# Altium footprint library RCL.PcbLib: 86 footprints (part 2 of 6)
Each footprint in its own frame and in the unit in brackets; x right, y up, seen from the top. Pads: shape width x height; smd on the part's side, far side on the other; paste and mask are expansions set on the pad; w line width, h text height; cw(c..) or ccw(c..) is an arc to the next point about the centre after c.
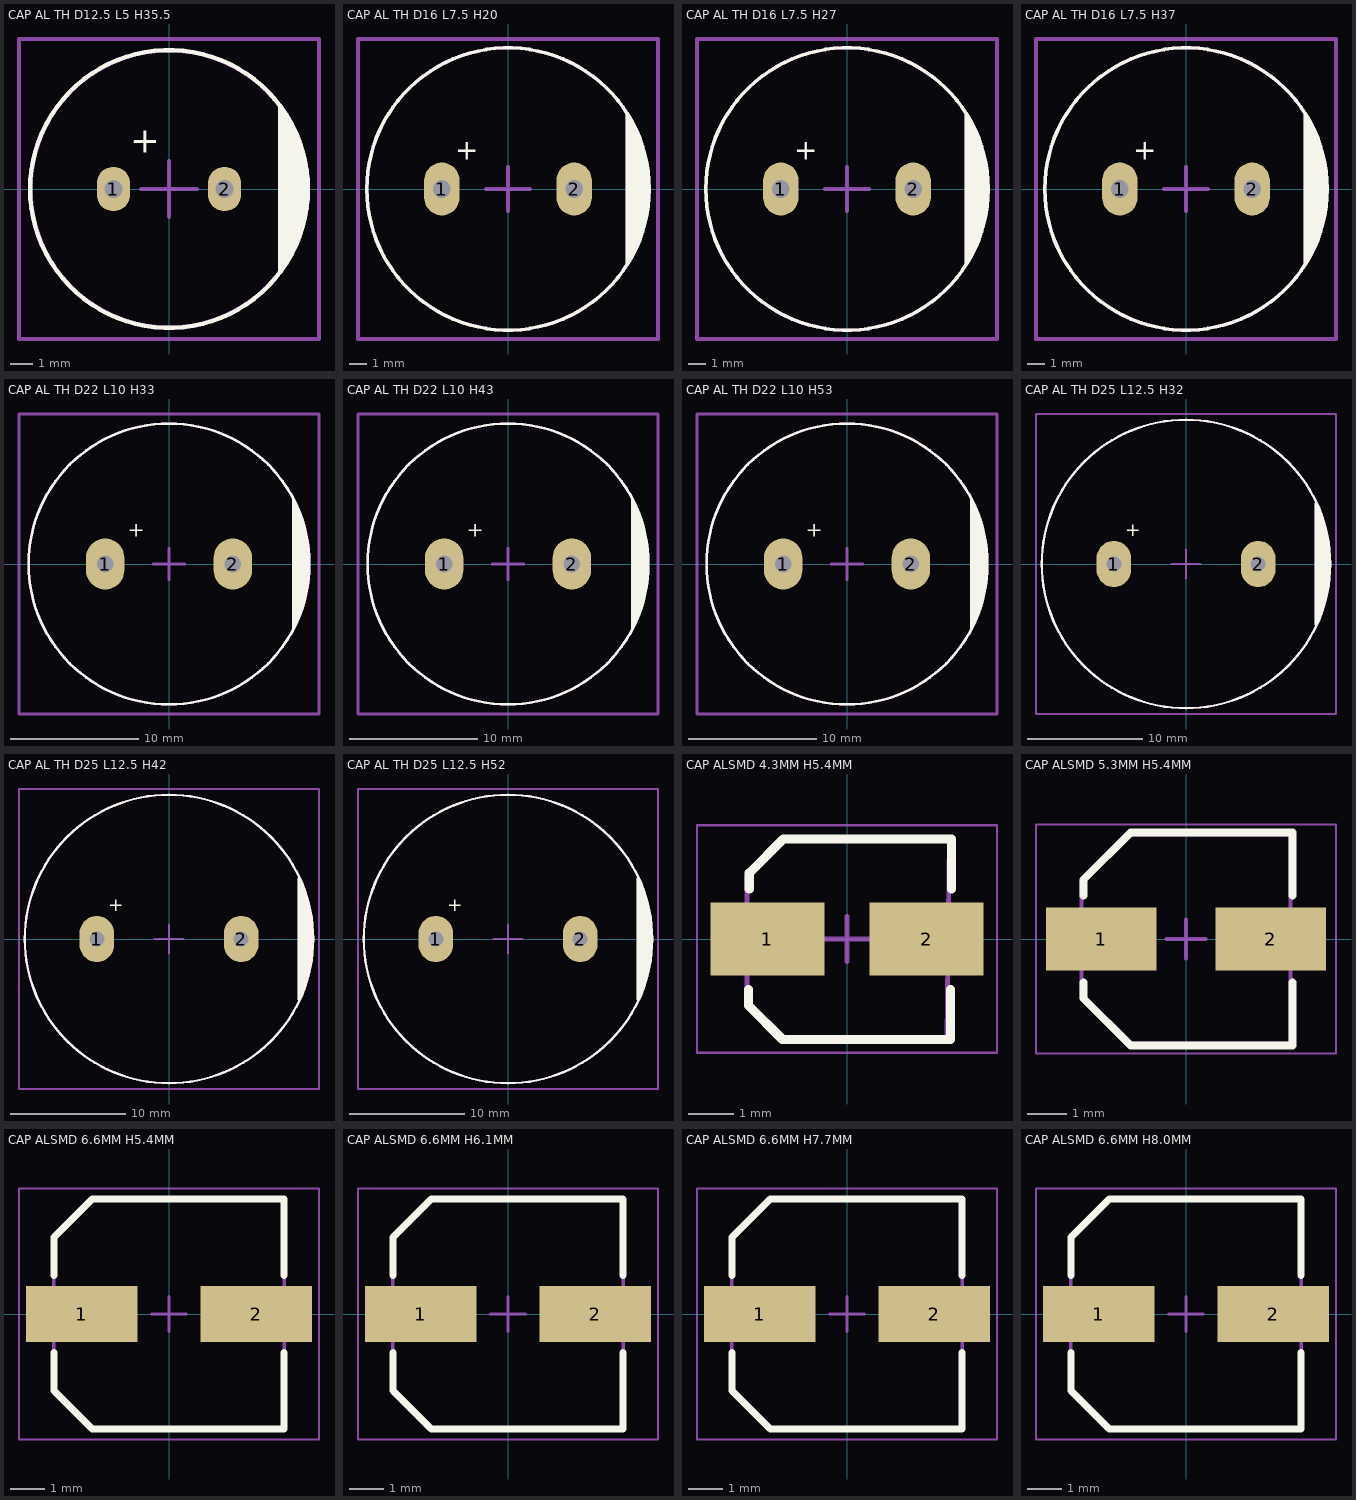
[diagram p1: the footprints below, top view; thin cyan lines are the x and y axes]

## CAP AL TH D12.5 L5 H35.5 [mm] "12.5MM Diameter, 5MM Lead Spacing Aluminium Capacitor"
height 35.5
pads (2):
  oval 1.5x2 hole 0.8: 1(-2.5,0) 2(2.5,0)
Top Overlay:
  circle w0.2: c0,0 r6.25
  region: 5,-3.75 5,3.75 5.75,2.5 6.25,1 6.25,0 6,-1.5 5.75,-2.5
  lines w0.2: 5,-3.75 5,3.75
  text "+" at -1.75,1.25 h2
Top Assembly (Mech3):
  circle w0.2: c0,0 r6.241
  lines w0.2: 5,-3.75 5,3.75
  text "+" at -3.1,-0.8 h3.5
Top Courtyard:
  lines w0.2: -1.25,0 1.25,0 ; 0,-1.25 0,1.25 ; -6.75,-6.75 0,-6.75 6.75,-6.75 6.75,0 6.75,6.75 0,6.75 -6.75,6.75 -6.75,0 -6.75,-6.75
3D body "CAP ALTH D-12.5MM L-5.0MM H-35.5MM.STEP": height 35.7, standoff -3, extent -6.25,-6.25 6.25,6.25

## CAP AL TH D16 L7.5 H20 [mm] "16MM Diameter, 7.5MM Lead Spacing Aluminium Capacitor"
height 20
pads (2):
  oval 2x3 hole 1: 1(-3.75,0) 2(3.75,0)
Top Overlay:
  circle w0.2: c0,0 r8
  region: 6.75,-4.25 6.75,4.25 7.5,2.75 8,1 8,0 7.75,-1.75 7.5,-2.75
  lines w0.2: 6.75,-4.25 6.75,4.25
  text "+" at -3,1.25 h2
Top Assembly (Mech3):
  circle w0.2: c0,0 r8
  lines w0.2: 6.75,-4.25 6.75,4.25
  text "+" at -4.3,-0.8 h3.5
Top Courtyard:
  lines w0.2: -1.25,0 1.25,0 ; 0,-1.25 0,1.25 ; -8.5,-8.5 8.5,-8.5 8.5,8.5 -8.5,8.5 -8.5,-8.5
3D body "CAP ALTH D-16MM L-7.5MM H-20MM .STEP": height 20.2, standoff -3, extent -8,-7.998 8,7.998

## CAP AL TH D16 L7.5 H27 [mm] "16MM Diameter, 7.5MM Lead Spacing Aluminium Capacitor"
height 27
pads (2):
  oval 2x3 hole 1: 1(-3.75,0) 2(3.75,0)
Top Overlay:
  circle w0.2: c0,0 r8
  region: 6.75,-4.25 6.75,4.25 7.5,2.75 8,1 8,0 7.75,-1.75 7.5,-2.75
  lines w0.2: 6.75,-4.25 6.75,4.25
  text "+" at -3,1.25 h2
Top Assembly (Mech3):
  circle w0.2: c0,0 r8
  lines w0.2: 6.75,-4.25 6.75,4.25
  text "+" at -4.3,-0.7 h3.5
Top Courtyard:
  lines w0.2: -1.25,0 1.25,0 ; 0,-1.25 0,1.25 ; -8.5,-8.5 8.5,-8.5 8.5,8.5 -8.5,8.5 -8.5,-8.5
3D body "CAP ALTH D-16MM L-7.5MM H-27MM .STEP": height 27.2, standoff -3, extent -8,-7.997 8,7.998

## CAP AL TH D16 L7.5 H37 [mm] "16MM Diameter, 7.5MM Lead Spacing Aluminium Capacitor"
height 37
pads (2):
  oval 2x3 hole 1: 1(-3.75,0) 2(3.75,0)
Top Overlay:
  circle w0.2: c0,0 r8
  region: 6.75,-4.25 6.75,4.25 7.5,2.75 8,1 8,0 7.75,-1.75 7.5,-2.75
  lines w0.2: 6.75,-4.25 6.75,4.25
  text "+" at -3,1.25 h2
Top Assembly (Mech3):
  circle w0.2: c0,0 r8
  lines w0.2: 6.75,-4.25 6.75,4.25
  text "+" at -4.3,-0.8 h3.5
Top Courtyard:
  lines w0.2: -1.25,0 1.25,0 ; 0,-1.25 0,1.25 ; -8.5,-8.5 8.5,-8.5 8.5,8.5 -8.5,8.5 -8.5,-8.5
3D body "CAP ALTH D-16MM L-7.5MM H-37MM.STEP": height 37.2, standoff -3, extent -8,-8 8,8

## CAP AL TH D22 L10 H33 [mm] "16MM Diameter, 7.5MM Lead Spacing Aluminium Capacitor"
height 33
pads (2):
  oval 3x4 hole 1.3: 1(-5,0) 2(5,0)
Top Overlay:
  circle w0.2: c0,0 r11
  region: 9.75,-5 9.75,5 10.75,2.5 11,1 11,0 11,-1 10.5,-3.25
  lines w0.2: 9.75,-5 9.75,5
  text "+" at -3.25,1.75 h2
Top Assembly (Mech3):
  circle w0.2: c0,0 r11
  lines w0.2: 9.75,-5 9.75,5
  text "+" at -5.6,-0.9 h3.5
Top Courtyard:
  lines w0.2: -1.25,0 1.25,0 ; 0,-1.25 0,1.25 ; -11.75,-11.75 11.75,-11.75 11.75,11.75 -11.75,11.75 -11.75,-11.75
3D body "CAP ALTH D-22MM L-10MM H-33MM.STEP": height 33.2, standoff -3, extent -11,-10.995 11,10.995

## CAP AL TH D22 L10 H43 [mm] "16MM Diameter, 7.5MM Lead Spacing Aluminium Capacitor"
height 43
pads (2):
  oval 3x4 hole 1.3: 1(-5,0) 2(5,0)
Top Overlay:
  circle w0.2: c0,0 r11
  region: 9.75,-5 9.75,5 10.75,2.5 11,1 11,0 11,-1 10.5,-3.25
  lines w0.2: 9.75,-5 9.75,5
  text "+" at -3.25,1.75 h2
Top Assembly (Mech3):
  circle w0.2: c0,0 r11
  lines w0.2: 9.75,-5 9.75,5
  text "+" at -5.5,-0.7 h3.5
Top Courtyard:
  lines w0.2: -1.25,0 1.25,0 ; 0,-1.25 0,1.25 ; -11.75,-11.75 11.75,-11.75 11.75,11.75 -11.75,11.75 -11.75,-11.75
3D body "CAP ALTH D-22MM L-10MM H-43MM.STEP": height 43.2, standoff -3, extent -11,-10.999 11,10.999

## CAP AL TH D22 L10 H53 [mm] "16MM Diameter, 7.5MM Lead Spacing Aluminium Capacitor"
height 53
pads (2):
  oval 3x4 hole 1.3: 1(-5,0) 2(5,0)
Top Overlay:
  circle w0.2: c0,0 r11
  region: 9.75,-5 9.75,5 10.75,2.5 11,1 11,0 11,-1 10.5,-3.25
  lines w0.2: 9.75,-5 9.75,5
  text "+" at -3.25,1.75 h2
Top Assembly (Mech3):
  circle w0.2: c0,0 r11
  lines w0.2: 9.75,-5 9.75,5
  text "+" at -5.5,-0.8 h3.5
Top Courtyard:
  lines w0.2: -1.25,0 1.25,0 ; 0,-1.25 0,1.25 ; -11.75,-11.75 -11.75,11.75 11.75,11.75 11.75,-11.75 -11.75,-11.75
3D body "CAP ALTH D-22MM L-10MM H-53MM.STEP": height 53.2, standoff -3, extent -11,-11 11,11

## CAP AL TH D25 L12.5 H32 [mm] "16MM Diameter, 7.5MM Lead Spacing Aluminium Capacitor"
height 32
pads (2):
  oval 3x4 hole 1.3: 1(-6.25,0) 2(6.25,0)
Top Overlay:
  circle w0.2: c0,0 r12.5
  region: 11.25,-5.25 11.25,5.375 12,3.5 12.25,2.5 12.5,1 12.5,0 12.5,-1 12,-3.5
  lines w0.2: 11.25,-5.25 11.25,5.25
  text "+" at -5.25,2 h2
Top Assembly (Mech3):
  circle w0.2: c0,0 r12.5
  lines w0.2: 11.25,-5.25 11.25,5.25
  text "+" at -6.8,-0.7 h3.5
Top Courtyard:
  lines w0.2: -1.25,0 1.25,0 ; 0,-1.25 0,1.25 ; -13,-13 13,-13 13,13 -13,13 -13,-13
3D body "CAP ALTH D-25MM L-12.5MM H-32MM.STEP": height 32.2, standoff -3, extent -12.5,-12.498 12.5,12.499

## CAP AL TH D25 L12.5 H42 [mm] "16MM Diameter, 7.5MM Lead Spacing Aluminium Capacitor"
height 42
pads (2):
  oval 3x4 hole 1.3: 1(-6.25,0) 2(6.25,0)
Top Overlay:
  circle w0.2: c0,0 r12.5
  region: 11.25,-5.25 11.25,5.375 12,3.5 12.25,2.5 12.5,1 12.5,0 12.5,-1 12,-3.5
  lines w0.2: 11.25,-5.25 11.25,5.25
  text "+" at -5.25,2 h2
Top Assembly (Mech3):
  circle w0.2: c0,0 r12.5
  lines w0.2: 11.25,-5.25 11.25,5.25
  text "+" at -6.8,-0.7 h3.5
Top Courtyard:
  lines w0.2: -1.25,0 1.25,0 ; 0,-1.25 0,1.25 ; -13,-13 13,-13 13,13 -13,13 -13,-13
3D body "CAP ALTH D-25MM L-12.5MM H-42MM.STEP": height 42.2, standoff -3, extent -12.5,-12.496 12.5,12.496

## CAP AL TH D25 L12.5 H52 [mm] "16MM Diameter, 7.5MM Lead Spacing Aluminium Capacitor"
height 52
pads (2):
  oval 3x4 hole 1.3: 1(-6.25,0) 2(6.25,0)
Top Overlay:
  circle w0.2: c0,0 r12.5
  region: 11.25,-5.25 11.25,5.375 12,3.5 12.25,2.5 12.5,1 12.5,0 12.5,-1 12,-3.5
  lines w0.2: 11.25,-5.25 11.25,5.25
  text "+" at -5.25,2 h2
Top Assembly (Mech3):
  circle w0.2: c0,0 r12.5
  lines w0.2: 11.25,-5.25 11.25,5.25
  text "+" at -6.8,-0.9 h3.5
Top Courtyard:
  lines w0.2: -1.25,0 1.25,0 ; 0,-1.25 0,1.25 ; -13,-13 13,-13 13,13 -13,13 -13,-13
3D body "CAP ALTH D-25MM L-12.5MM H-52MM.STEP": height 52.2, standoff -3, extent -12.5,-12.499 12.5,12.499

## CAP ALSMD 4.3MM H5.4MM [mm] "Aluminum Electrolytic Capacitor, Body 4.30x4.30x5.40mm, IPC Low Density"
height 5.4
pads (2):
  rect 2.5x1.6 smd: 1(-1.75,0) 2(1.75,0)
Top Overlay:
  lines w0.2: -2.17,-1.112 -2.17,-1.462 -1.42,-2.212 2.28,-2.212 2.28,-1.112 ; -2.15,1.1 -2.15,1.45 -1.4,2.2 2.3,2.2 2.3,1.1
Top Assembly (Mech3):
  lines w0.1: -2.2,-1.4 -2.2,1.4 -1.4,2.2 2.25,2.2 2.2,-2.2 -1.4,-2.2 -2.2,-1.4
  text "+" at -1.9,-0.8 h3.5
Top Courtyard:
  lines w0.05: -3.3,-2.5 -3.3,2.5 3.3,2.5 3.3,-2.5 -3.3,-2.5
  lines w0.1: -0.5,0 0.5,0 ; 0,-0.5 0,0.5
3D body "CAP ALSMD - 4.3 x 4.3 x 5.4.step": height 5.4, standoff 0, extent -2.3,-2.2 2.3,2.2

## CAP ALSMD 5.3MM H5.4MM [mm] "Aluminum Electrolytic Capacitor, Body 5.30x5.30x5.40mm, IPC Low Density"
height 5.4
pads (2):
  rect 2.8x1.6 smd: 1(-2.15,0) 2(2.15,0)
Top Overlay:
  lines w0.2: -2.6,-1.1 -2.6,-1.5 -1.4,-2.7 2.7,-2.7 2.7,-1.1 ; -2.6,1.1 -2.6,1.5 -1.4,2.7 2.7,2.7 2.7,1.1
Top Assembly (Mech3):
  lines w0.1: -2.65,-1.5 -2.65,1.475 -1.475,2.65 2.65,2.65 2.65,-2.65 -1.5,-2.65 -2.65,-1.5
  text "+" at -2.2,-0.8 h3.5
Top Courtyard:
  lines w0.05: -3.8,-2.9 -3.8,2.9 3.8,2.9 3.8,-2.9 -3.8,-2.9
  lines w0.1: -0.5,0 0.5,0 ; 0,-0.5 0,0.5
3D body "CAP ALSMD - 5.3 x 5.3 x 5.4.step": height 5.4, standoff 0, extent -2.95,-2.7 2.95,2.7

## CAP ALSMD 6.6MM H5.4MM [mm] "Aluminum Electrolytic Capacitor, Body 6.60x6.60x5.40mm, IPC Low Density"
height 5.4
pads (2):
  rect 3.2x1.6 smd: 1(-2.5,0) 2(2.5,0)
Top Overlay:
  lines w0.2: -3.3,-1.1 -3.3,-2.2 -2.2,-3.3 3.3,-3.3 3.3,-1.1 ; -3.3,1.1 -3.3,2.2 -2.2,3.3 3.3,3.3 3.3,1.1
Top Assembly (Mech3):
  lines w0.1: -3.3,-2.2 -3.3,2.2 -2.2,3.3 3.3,3.3 3.3,-3.3 -2.2,-3.3 -3.3,-2.2
  text "+" at -3,-0.8 h3.5
Top Courtyard:
  lines w0.05: -4.3,-3.6 -4.3,3.6 4.3,3.6 4.3,-3.6 -4.3,-3.6
  lines w0.1: -0.5,0 0.5,0 ; 0,-0.5 0,0.5
3D body "CAP ALSMD - 6.6 x 6.6 x 5.4.step": height 5.4, standoff 0, extent -3.5,-3.3 3.5,3.3

## CAP ALSMD 6.6MM H6.1MM [mm] "Aluminum Electrolytic Capacitor, Body 6.60x6.60x6.10mm, IPC Low Density"
height 6.1
pads (2):
  rect 3.2x1.6 smd: 1(-2.5,0) 2(2.5,0)
Top Overlay:
  lines w0.2: -3.3,-1.1 -3.3,-2.2 -2.2,-3.3 3.3,-3.3 3.3,-1.1 ; -3.3,1.1 -3.3,2.2 -2.2,3.3 3.3,3.3 3.3,1.1
Top Assembly (Mech3):
  lines w0.1: -3.3,-2.2 -2.2,-3.3 3.3,-3.3 3.3,3.3 -2.2,3.3 -3.3,2.2 -3.3,-2.2
  text "+" at -3,-0.8 h3.5
Top Courtyard:
  lines w0.05: -4.3,-3.6 4.3,-3.6 4.3,3.6 -4.3,3.6 -4.3,-3.6
  lines w0.1: -0.5,0 0.5,0 ; 0,-0.5 0,0.5
3D body "CAP ALSMD - 6.6 x 6.6 x 6.1.step": height 6.1, standoff 0, extent -3.5,-3.3 3.5,3.3

## CAP ALSMD 6.6MM H7.7MM [mm] "Aluminum Electrolytic Capacitor, Body 6.60x6.60x7.70mm, IPC Low Density"
height 7.7
pads (2):
  rect 3.2x1.6 smd: 1(-2.5,0) 2(2.5,0)
Top Overlay:
  lines w0.2: -3.3,-1.1 -3.3,-2.2 -2.2,-3.3 3.3,-3.3 3.3,-1.1 ; -3.3,1.1 -3.3,2.2 -2.2,3.3 3.3,3.3 3.3,1.1
Top Assembly (Mech3):
  lines w0.1: -3.3,-2.2 -2.2,-3.3 3.3,-3.3 3.3,3.3 -2.2,3.3 -3.3,2.2 -3.3,-2.2
  text "+" at -3.1,-0.8 h3.5
Top Courtyard:
  lines w0.05: -4.3,-3.6 4.3,-3.6 4.3,3.6 -4.3,3.6 -4.3,-3.6
  lines w0.1: -0.5,0 0.5,0 ; 0,-0.5 0,0.5
3D body "CAP ALSMD - 6.6 x 6.6 x 7.7.step": height 7.7, standoff 0, extent -3.6,-3.3 3.6,3.3

## CAP ALSMD 6.6MM H8.0MM [mm] "Aluminum Electrolytic Capacitor, Body 6.60x6.60x8.0mm, IPC Low Density"
height 8
pads (2):
  rect 3.2x1.6 smd: 1(-2.5,0) 2(2.5,0)
Top Overlay:
  lines w0.2: -3.3,-1.1 -3.3,-2.2 -2.2,-3.3 3.3,-3.3 3.3,-1.1 ; -3.3,1.1 -3.3,2.2 -2.2,3.3 3.3,3.3 3.3,1.1
Top Assembly (Mech3):
  lines w0.1: -3.3,-2.2 -2.2,-3.3 3.3,-3.3 3.3,3.3 -2.2,3.3 -3.3,2.2 -3.3,-2.2
  text "+" at -3.1,-0.8 h3.5
Top Courtyard:
  lines w0.05: -4.3,-3.6 -4.3,3.6 4.3,3.6 4.3,-3.6 -4.3,-3.6
  lines w0.1: -0.5,0 0.5,0 ; 0,-0.5 0,0.5
3D body "CAP ALSMD - 6.6 x 6.6 x 8.step": height 8, standoff 0, extent -3.5,-3.3 3.5,3.3